# Altium footprint library YS_STM32f103.PcbLib: 56 footprints (part 3 of 4)
Each footprint in its own frame and in the unit in brackets; x right, y up, seen from the top. Pads: shape width x height; smd on the part's side, far side on the other; paste and mask are expansions set on the pad; w line width, h text height; cw(c..) or ccw(c..) is an arc to the next point about the centre after c.
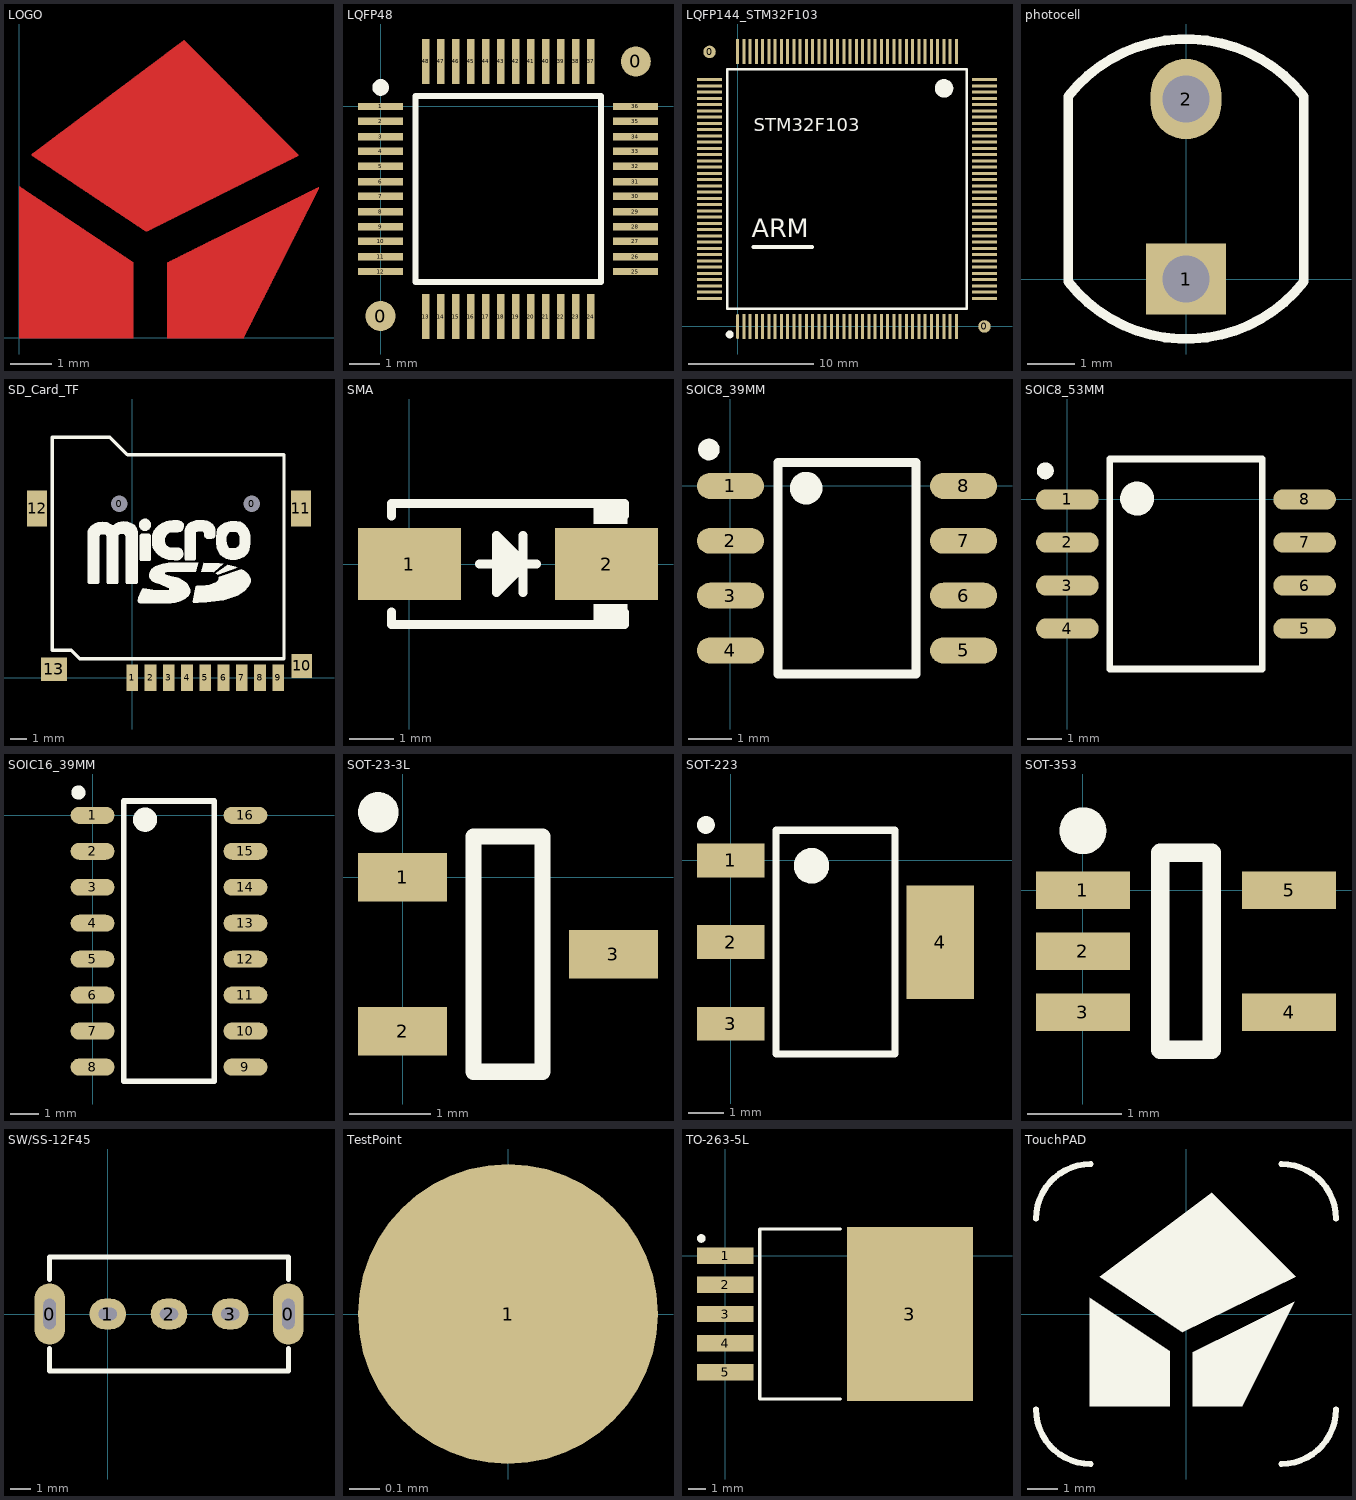
[diagram p2: the footprints below, top view; thin cyan lines are the x and y axes]

## LOGO [mm]
Top Layer:
  drawing of 2327 lines, arcs and shapes, not listed

## LQFP48 [mm]
pads (50):
  round 1 smd: 0(0,-6.985) 0(8.509,1.5)
  rect 1.5x0.25 smd: 1(0,0) 2(0,-0.5) 3(0,-1) 4(0,-1.5) 5(0,-2) 6(0,-2.5) 7(0,-3) 8(0,-3.5) 9(0,-4) 10(0,-4.5) 11(0,-5) 12(0,-5.5) 25(8.495,-5.5) 26(8.495,-5) 27(8.495,-4.5) 28(8.495,-4) 29(8.495,-3.5) 30(8.495,-3) 31(8.495,-2.5) 32(8.495,-2) 33(8.495,-1.5) 34(8.495,-1) 35(8.495,-0.5) 36(8.495,0)
  rect 0.25x1.5 smd: 13(1.5,-7) 14(2,-7) 15(2.5,-7) 16(3,-7) 17(3.5,-7) 18(4,-7) 19(4.5,-7) 20(5,-7) 21(5.5,-7) 22(6,-7) 23(6.5,-7) 24(7,-7) 37(7,1.5) 38(6.5,1.5) 39(6,1.5) 40(5.5,1.5) 41(5,1.5) 42(4.5,1.5) 43(4,1.5) 44(3.5,1.5) 45(3,1.5) 46(2.5,1.5) 47(2,1.5) 48(1.5,1.5)
Top Overlay:
  circle w0.3: c0,0.635 r0.127
  lines w0.2: 1.167,-5.857 1.167,0.357 7.352,0.357 7.352,-5.857 1.167,-5.857

## LQFP144_STM32F103 [mm]
pads (146):
  round 1 smd: 0(-2.25,21.971) 0(19.75,0)
  oval 0.23x2 smd: 1(0,0)
  rect 0.23x2 smd: 2(0.5,0) 3(1,0) 4(1.5,0) 5(2,0) 6(2.5,0) 7(3,0) 8(3.5,0) 9(4,0) 10(4.5,0) 11(5,0) 12(5.5,0) 13(6,0) 14(6.5,0) 15(7,0) 16(7.5,0) 17(8,0) 18(8.5,0) 19(9,0) 20(9.5,0) 21(10,0) 22(10.5,0) 23(11,0) 24(11.5,0) 25(12,0) 26(12.5,0) 27(13,0) 28(13.5,0) 29(14,0) 30(14.5,0) 31(15,0) 32(15.5,0) 33(16,0) 34(16.5,0) 35(17,0) 36(17.5,0) 73(17.5,22) 74(17,22) 75(16.5,22) 76(16,22) 77(15.5,22) 78(15,22) 79(14.5,22) 80(14,22) 81(13.5,22) 82(13,22) 83(12.5,22) 84(12,22) 85(11.5,22) 86(11,22) 87(10.5,22) 88(10,22) 89(9.5,22) 90(9,22) 91(8.5,22) 92(8,22) 93(7.5,22) 94(7,22) 95(6.5,22) 96(6,22) 97(5.5,22) 98(5,22) 99(4.5,22) 100(4,22) 101(3.5,22) 102(3,22) 103(2.5,22) 104(2,22) 105(1.5,22) 106(1,22) 107(0.5,22) 108(0,22)
  rect 2x0.23 smd: 37(19.75,2.25) 38(19.75,2.75) 39(19.75,3.25) 40(19.75,3.75) 41(19.75,4.25) 42(19.75,4.75) 43(19.75,5.25) 44(19.75,5.75) 45(19.75,6.25) 46(19.75,6.75) 47(19.75,7.25) 48(19.75,7.75) 49(19.75,8.25) 50(19.75,8.75) 51(19.75,9.25) 52(19.75,9.75) 53(19.75,10.25) 54(19.75,10.75) 55(19.75,11.25) 56(19.75,11.75) 57(19.75,12.25) 58(19.75,12.75) 59(19.75,13.25) 60(19.75,13.75) 61(19.75,14.25) 62(19.75,14.75) 63(19.75,15.25) 64(19.75,15.75) 65(19.75,16.25) 66(19.75,16.75) 67(19.75,17.25) 68(19.75,17.75) 69(19.75,18.25) 70(19.75,18.75) 71(19.75,19.25) 72(19.75,19.75) 109(-2.25,19.75) 110(-2.25,19.25) 111(-2.25,18.75) 112(-2.25,18.25) 113(-2.25,17.75) 114(-2.25,17.25) 115(-2.25,16.75) 116(-2.25,16.25) 117(-2.25,15.75) 118(-2.25,15.25) 119(-2.25,14.75) 120(-2.25,14.25) 121(-2.25,13.75) 122(-2.25,13.25) 123(-2.25,12.75) 124(-2.25,12.25) 125(-2.25,11.75) 126(-2.25,11.25) 127(-2.25,10.75) 128(-2.25,10.25) 129(-2.25,9.75) 130(-2.25,9.25) 131(-2.25,8.75) 132(-2.25,8.25) 133(-2.25,7.75) 134(-2.25,7.25) 135(-2.25,6.75) 136(-2.25,6.25) 137(-2.25,5.75) 138(-2.25,5.25) 139(-2.25,4.75) 140(-2.25,4.25) 141(-2.25,3.75) 142(-2.25,3.25) 143(-2.25,2.75) 144(-2.25,2.25)
Top Overlay:
  circle w0.762: c16.51,19.05 r0.359
  circle w0.381: c-0.635,-0.635 r0.127
  lines w0.203: -0.838,1.422 -0.838,20.574 18.313,20.574 18.313,1.422 -0.838,1.422
  lines w0.305: 1.27,6.35 5.969,6.35
  text "STM32F103" at 1.27,15.24 h1.78
  text "ARM" at 1.143,6.604 h2.54

## photocell [mm]
pads (2):
  rect 1.7x1.5 hole 1: 1(0,0)
  oval 1.5x1.7 hole 1: 2(0,3.81)
Top Overlay:
  lines w0.203: -2.492,-0.062 ccw(c0,1.905) 2.492,-0.062 2.492,3.872 ccw(c0,1.905) -2.492,3.872 -2.492,-0.062

## SD_Card_TF [mil]
pads (15):
  round 30 hole 39.37 mask+0: 0(-31.5,413.39) 0(283.46,413.39)
  rect 28x62 smd: 1(0,0) 2(43.31,0) 3(86.61,0) 4(129.92,0) 5(173.23,0) 6(216.54,0) 7(259.84,0) 8(303.15,0) 9(346.46,0)
  rect 48x56 smd: 10(402,28)
  rect 48x86 smd: 11(400,402) 12(-226,402)
  rect 62x56 smd: 13(-186,20)
Top Overlay:
  drawing of 18 lines, arcs and shapes, not listed

## SMA [mm]
pads (2):
  rect 2.3x1.6 smd: 1(0,0) 2(4.4,0)
Top Overlay:
  rectangle: 4.105,0.889 4.867,1.35
  rectangle: 4.105,-1.35 4.867,-0.889
  region: 1.946,0.635 1.946,-0.635 2.581,0
  lines w0.2: -0.4,-1.076 -0.4,-1.35 4.8,-1.35 4.8,-1.083 ; -0.4,1.076 -0.4,1.35 4.8,1.35 4.8,1.083 ; 1.565,0 2.835,0 ; 2.54,-0.635 2.54,0.635 ; 1.946,-0.635 2.581,0 1.946,0.635 1.946,-0.635

## SOIC8_39MM [mm]
pads (8):
  oval 1.55x0.6 smd: 1(0,0) 2(0,-1.27) 3(0,-2.54) 4(0,-3.81) 5(5.4,-3.81) 6(5.4,-2.54) 7(5.4,-1.27) 8(5.4,0)
Top Overlay:
  circle w0.5: c1.753,-0.051 r0.127
  circle w0.25: c-0.5,0.845 r0.125
  lines w0.2: 1.1,-4.355 4.3,-4.355 4.3,0.545 1.1,0.545 1.1,-4.355

## SOIC8_53MM [mm]
pads (8):
  oval 1.85x0.6 smd: 1(0,0) 2(0,-1.27) 3(0,-2.54) 4(0,-3.81) 5(7,-3.81) 6(7,-2.54) 7(7,-1.27) 8(7,0)
Top Overlay:
  circle w0.25: c-0.65,0.845 r0.125
  circle w0.5: c2.057,0.025 r0.25
  lines w0.2: 1.25,-5.005 1.25,1.195 5.75,1.195 5.75,-5.005 1.25,-5.005

## SOIC16_39MM [mm]
pads (16):
  oval 1.55x0.6 smd: 1(0,0) 2(0,-1.27) 3(0,-2.54) 4(0,-3.81) 5(0,-5.08) 6(0,-6.35) 7(0,-7.62) 8(0,-8.89) 9(5.4,-8.89) 10(5.4,-7.62) 11(5.4,-6.35) 12(5.4,-5.08) 13(5.4,-3.81) 14(5.4,-2.54) 15(5.4,-1.27) 16(5.4,0)
Top Overlay:
  circle w0.5: c1.854,-0.152 r0.178
  circle w0.25: c-0.5,0.805 r0.125
  lines w0.2: 1.1,-9.395 4.3,-9.395 4.3,0.505 1.1,0.505 1.1,-9.395

## SOT-23-3L [mm]
pads (3):
  rect 1.1x0.6 smd: 1(0,0) 2(0,-1.9) 3(2.6,-0.95)
Top Overlay:
  circle w0.25: c-0.3,0.8 r0.125
  lines w0.2: 0.875,-2.4 0.875,0.5 1.725,0.5 1.725,-2.4 0.875,-2.4

## SOT-223 [mm]
pads (4):
  rect 1.9x0.95 smd: 1(0,0) 2(0,-2.3) 3(0,-4.6)
  rect 1.9x3.2 smd: 4(5.9,-2.3)
Top Overlay:
  circle w0.5: c2.275,-0.15 r0.25
  circle w0.25: c-0.7,1 r0.125
  lines w0.2: 1.275,-5.45 4.625,-5.45 4.625,0.85 1.275,0.85 1.275,-5.45

## SOT-353 [mm]
pads (5):
  rect 1x0.4 smd: 1(0,0) 2(0,-0.65) 3(0,-1.3) 4(2.2,-1.3) 5(2.2,0)
Top Overlay:
  circle w0.25: c0,0.635 r0.125
  lines w0.2: 0.825,-1.7 0.825,0.4 1.375,0.4 1.375,-1.7 0.825,-1.7

## SW/SS-12F45 [mm]
pads (5):
  oval 1.5x3 hole 0.6 slot 1.5 at 90 deg: 0(-2.85,0) 0(8.85,0)
  oval 1.8x1.5 hole 0.6 slot 0.9 at 0 deg: 1(0,0) 2(3,0) 3(6,0)
Top Overlay:
  lines w0.254: -2.85,-1.7 -2.85,-2.8 8.85,-2.8 8.85,-1.7 ; -2.85,1.7 -2.85,2.8 8.85,2.8 8.85,1.7

## TestPoint [mm]
pads (1):
  round 1 smd: 1(0,0)

## TO-263-5L [mm]
pads (6):
  rect 3.3x0.95 smd: 1(0,0) 2(0,-1.7) 3(0,-3.4) 4(0,-5.1) 5(0,-6.8)
  rect 7.35x10.15 smd: 3(10.75,-3.4)
Top Overlay:
  circle w0.25: c-1.4,1 r0.125
  lines w0.2: 6.7,-8.35 2,-8.35 2,1.55 6.7,1.55

## TouchPAD [mm]
pads (1):
  rrect50% 0.1x0.1 on Top Overlay: 1(0,0)
Top Overlay:
  region: 1.88,-0.457 2.743,-0.457 3.607,0.406
  region: 1.88,-3.073 1.88,-1.321 3.607,0.406
  region: 2.743,-0.457 1.88,-0.457 1.88,-3.073
  region: 0.229,-1.27 0.229,-3.073 1.88,-3.073 1.88,-0.457
  region: -3.2,-1.245 -3.2,-3.073 -0.533,-3.073 -0.533,-1.245
  region: -0.533,-1.245 -3.2,-1.245 -3.2,0.533
  region: -0.127,-0.61 -1.981,1.245 3.658,1.245
  region: -2.87,1.245 -1.981,1.245 -0.127,-0.61
  region: 0.864,4.039 -1.93,1.245 -2.87,1.245
  region: -1.93,1.245 0.864,4.039 3.658,1.245
  lines w0.2: -5,-3.175 ccw(c-3.175,-3.175) -3.175,-5 ; -5,3.175 cw(c-3.175,3.175) -3.175,5 ; 3.175,-5 ccw(c3.175,-3.175) 5,-3.175 ; 3.175,5 cw(c3.175,3.175) 5,3.175